# Altium footprint library JLC_25.PcbLib: 87 footprints (part 3 of 6)
Each footprint in its own frame and in the unit in brackets; x right, y up, seen from the top. Pads: shape width x height; smd on the part's side, far side on the other; paste and mask are expansions set on the pad; w line width, h text height; cw(c..) or ccw(c..) is an arc to the next point about the centre after c.
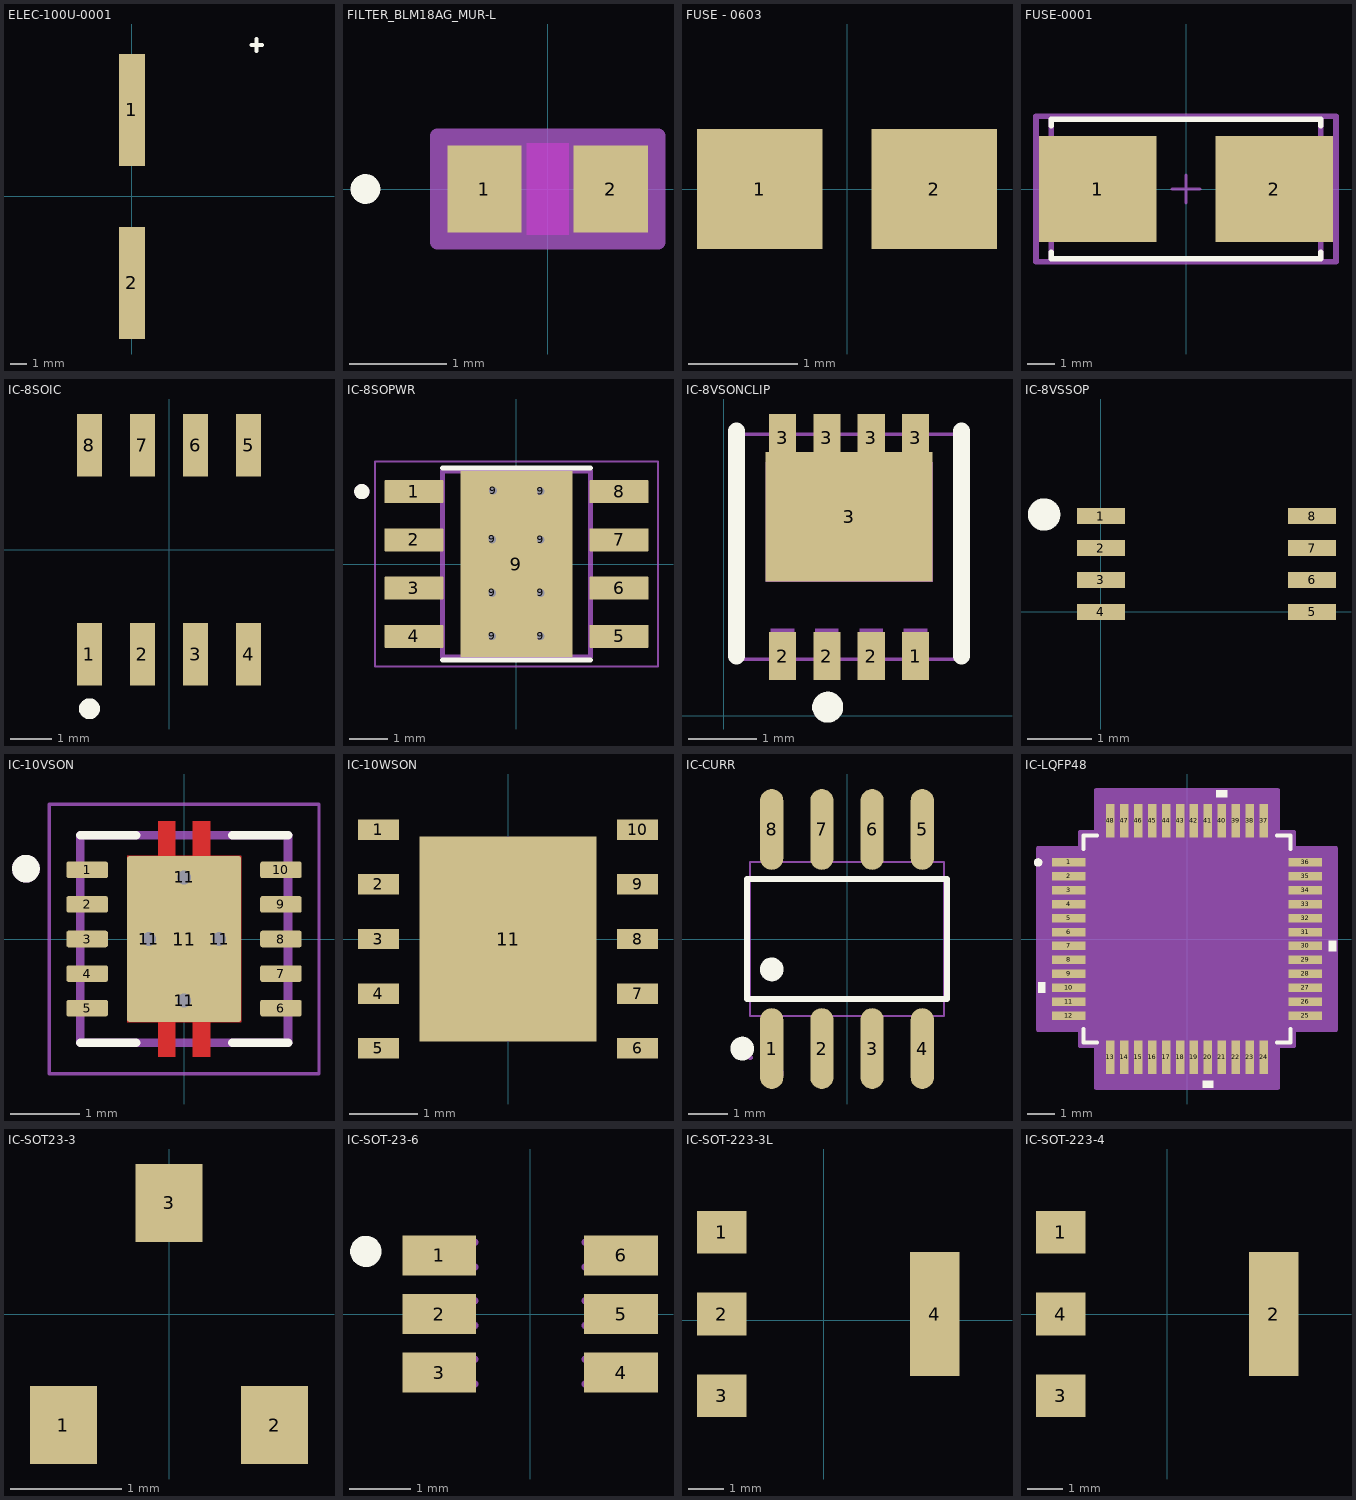
[diagram p2: the footprints below, top view; thin cyan lines are the x and y axes]

## ELEC-100U-0001 [mm]
pads (2):
  rect 1.6x7 smd: 1(0,5.4) 2(0,-5.4)
Top Overlay:
  lines w0.25: 7.775,9.075 7.775,9.825
  lines w0.254: 7.45,9.45 7.775,9.45 8.125,9.45
3D body "CAP_S-V_12P5X16_RUB.step": height 16.56, standoff 0, extent -6.604,-7.15 6.604,7.15

## FILTER_BLM18AG_MUR-L [mil]
pads (2):
  rect 30x35 smd paste+0 mask+0: 1(-25.5,0) 2(25.5,0)
Top Layer keep-out:
  region: -8.5,-16.5 -8.5,16.5 8.5,16.5 8.5,-16.5
Top Overlay:
  circle w6: c-73.5,0 r3
Keep-Out Layer:
  region: -8.5,-18.5 -8.5,18.5 8.5,18.5 8.5,-18.5
Mechanical 13:
  circle w0: c-20.5,0 r3
  lines w1: -34.5,-18.5 -34.5,18.5 ; -34.5,-18.5 34.5,-18.5 ; -34.5,-18.5 -10.5,-18.5 -10.5,18.5 -34.5,18.5 ; -34.5,-18.5 -34.5,18.5 ; -34.5,18.5 34.5,18.5 ; 34.5,-18.5 34.5,18.5 ; 34.5,-18.5 34.5,18.5 ; 34.5,-18.5 10.5,-18.5 10.5,18.5 34.5,18.5
Mechanical 15:
  region: 44.5,-21.5 -44.5,-21.5 -44.5,21.5 44.5,21.5
  lines w6: -44.5,-21.5 44.5,-21.5 44.5,21.5 -44.5,21.5 -44.5,-21.5
3D body "FILTER_BLM18AG_MUR.step": height 37.01, standoff 0, extent -34.49,-18.5 34.49,18.5

## FUSE - 0603 [mm]
pads (2):
  rect 1.15x1.1 smd: 1(-0.8,0) 2(0.8,0)
3D body "2176051-4.STEP": height 0.43, standoff -0.03, extent -0.8,-0.4 0.8,0.4

## FUSE-0001 [mil]
pads (2):
  rect 167x150 smd paste+0 mask+0: 1(-125.5,0) 2(125.5,0)
Top Overlay:
  lines w7.87: -191.54,-89.76 -191.54,-99.02 191.54,-99.02 191.54,-89.76 ; -191.54,89.76 -191.54,99.02 191.54,99.02 191.54,89.76
Top 3D Body:
  lines w7.87: -191.54,-99.02 191.54,-99.02 191.54,99.02 -191.54,99.02 -191.54,-99.02
Top Courtyard:
  lines w7.87: -212.94,-102.95 212.94,-102.95 212.94,102.95 -212.94,102.95 -212.94,-102.95
Top Assembly:
  lines w7.87: -212.94,-102.95 212.94,-102.95 212.94,102.95 -212.94,102.95 -212.94,-102.95
Top Component Center:
  lines w3.94: -19.68,0 19.68,0 ; 0,-19.68 0,19.68
3D body "Fuse_Littelfuse_Inc_01550900M_eec.STEP": height 10, standoff 0, extent -212.94,-102.95 212.94,102.95

## IC-8SOIC [mm]
pads (8):
  rect 0.6x1.5 smd: 1(-1.905,-2.5) 2(-0.635,-2.5) 3(0.635,-2.5) 4(1.905,-2.5) 5(1.905,2.5) 6(0.635,2.5) 7(-0.635,2.5) 8(-1.905,2.5)
Top Overlay:
  circle w0.25: c-1.905,-3.81 r0.125
3D body "SOIC-8_3.9x4.9mm_P1.27mm.step": height 1.75, standoff 0, extent -2.45,-3 2.45,3

## IC-8SOPWR [mm]
pads (17):
  rrect5% 1.55x0.6 smd mask+0: 1(-2.7,1.905) 2(-2.7,0.635) 3(-2.7,-0.635) 4(-2.7,-1.905) 5(2.7,-1.905) 6(2.7,-0.635) 7(2.7,0.635) 8(2.7,1.905)
  round 0.368 hole 0.2: 9(-0.635,-1.905) 9(-0.635,-0.762) 9(-0.634,0.645) 9(-0.617,1.923) 9(0.635,-1.905) 9(0.635,-0.762) 9(0.635,0.635) 9(0.64,1.914)
  rect 2.95x4.9 smd paste-3 mask+0: 9(0,0)
Top Overlay:
  circle w0.2: c-4.07,1.905 r0.1
  lines w0.127: -1.95,-2.525 1.95,-2.525 ; -1.95,2.525 1.95,2.525
Top Paste:
  region: 1.355,-1.7 -1.355,-1.7 -1.355,1.7 1.355,1.7
Top Solder:
  drawing of 9 lines, arcs and shapes, not listed
Mechanical 13:
  circle w0.2: c-4.07,1.905 r0.1
  lines w0.127: -1.95,-2.45 -1.95,2.45 1.95,2.45 1.95,-2.45 -1.95,-2.45
Mechanical 15:
  lines w0.05: -3.725,-2.7 -3.725,2.7 3.725,2.7 3.725,-2.7 -3.725,-2.7
3D body "step_temp.STEP": height 1.7, standoff 0, extent -3,-2.45 3,2.45

## IC-8VSONCLIP [mm]
pads (9):
  rect 0.4x0.7 smd paste-100 mask+0.05: 1(2.812,0.877) 2(0.862,0.877) 2(1.512,0.877) 2(2.162,0.877) 3(0.862,4.077) 3(1.512,4.077) 3(2.162,4.077) 3(2.812,4.077)
  rect 2.45x1.9 smd paste-100 mask+0.05: 3(1.837,2.917)
Top Overlay:
  circle w0.254: c1.524,0.127 r0.1
  lines w0.254: 0.187,0.877 0.187,4.177 ; 3.487,0.877 3.487,4.177
Top Paste:
  region: 3.057,1.967 3.057,3.867 3.017,3.867 3.017,4.427 2.617,4.427 2.607,4.427 2.607,3.867 2.357,3.867 2.357,4.427 1.967,4.427 1.967,3.867 1.707,3.867 1.707,4.427 1.317,4.427 1.317,3.867 1.057,3.867 1.057,4.427 0.667,4.427 0.667,3.867 0.607,3.867 0.607,1.957
  region: 0.662,1.227 1.062,1.227 1.062,0.527 0.662,0.527
  region: 1.312,1.227 1.712,1.227 1.712,0.527 1.312,0.527
  region: 1.962,1.227 2.362,1.227 2.362,0.527 1.962,0.527
  region: 2.612,1.227 3.012,1.227 3.012,0.527 2.612,0.527
Mechanical 15:
  region: 2.662,4.127 2.962,4.127 2.962,3.677 2.662,3.677
  region: 2.012,4.127 2.312,4.127 2.312,3.677 2.012,3.677
  region: 1.362,4.127 1.662,4.127 1.662,3.677 1.362,3.677
  region: 0.712,4.127 1.012,4.127 1.012,3.677 0.712,3.677
  region: 0.612,3.718 3.062,3.718 3.062,1.968 0.612,1.968
  region: 2.642,1.277 2.982,1.277 2.982,0.827 2.642,0.827
  region: 1.992,1.277 2.332,1.277 2.332,0.827 1.992,0.827
  region: 1.342,1.277 1.682,1.277 1.682,0.827 1.342,0.827
  region: 0.692,1.277 1.032,1.277 1.032,0.827 0.692,0.827
  region: 0.247,0.827 0.247,0.852 0.212,0.887 0.162,0.887 0.127,0.852 0.127,0.827 0.127,0.802 0.162,0.767 0.212,0.767 0.247,0.802
  lines w0.051: 0.187,0.827 3.487,0.827 3.487,4.127 0.187,4.127 0.187,0.827
3D body "CSD17575Q3.step": height 1.1, standoff 0, extent 0.179,0.891 3.479,4.191

## IC-8VSSOP [mm]
pads (8):
  rect 0.75x0.25 smd: 1(0,1.5) 2(0,1) 3(0,0.5) 4(0,0) 5(3.3,0) 6(3.3,0.5) 7(3.3,1) 8(3.3,1.5)
Top Overlay:
  circle w0.254: c-0.889,1.524 r0.127
3D body "SN74LVC2G157DCUR.STEP": height 0.9, standoff 0, extent 0.101,-0.238 3.201,1.762

## IC-10VSON [mm]
pads (15):
  rrect25% 0.6x0.24 smd mask+0: 1(-1.4,1) 2(-1.4,0.5) 3(-1.4,0) 4(-1.4,-0.5) 5(-1.4,-1) 6(1.4,-1) 7(1.4,-0.5) 8(1.4,0) 9(1.4,0.5) 10(1.4,1)
  round 0.368 hole 0.2 mask+0: 11(-0.508,0) 11(0,-0.889) 11(0,0.889) 11(0.508,0)
  rrect5% 1.65x2.4 smd paste-2 mask+0: 11(0,0)
Top Layer:
  region: 0.375,1.2 0.825,1.2 0.825,-1.2 0.375,-1.2 0.375,-1.7 0.125,-1.7 0.125,-1.2 -0.125,-1.2 -0.125,-1.7 -0.375,-1.7 -0.375,-1.2 -0.825,-1.2 -0.825,1.2 -0.375,1.2 -0.375,1.7 -0.125,1.7 -0.125,1.2 0.125,1.2 0.125,1.7 0.375,1.7
Top Overlay:
  circle w0.2: c-2.286,1.016 r0.1
  lines w0.127: -1.5,-1.5 -0.695,-1.5 ; -1.5,1.5 -0.695,1.5 ; 0.695,-1.5 1.5,-1.5 ; 0.695,1.5 1.5,1.5
Top Paste:
  region: -0.125,-1.7 -0.375,-1.7 -0.375,-1.36 -0.125,-1.36
  region: 0.375,-1.7 0.125,-1.7 0.125,-1.36 0.375,-1.36
  region: -0.125,1.36 -0.375,1.36 -0.375,1.7 -0.125,1.7
  region: 0.375,1.36 0.125,1.36 0.125,1.7 0.375,1.7
  region: 0.75,-1.16 -0.75,-1.16 -0.75,-0.1 0.75,-0.1
  region: 0.75,0.1 -0.75,0.1 -0.75,1.16 0.75,1.16
Top Solder:
  region: -1.03,0.81 -1.77,0.81 -1.77,1.19 -1.03,1.19
  region: -1.03,0.31 -1.77,0.31 -1.77,0.69 -1.03,0.69
  region: -1.03,-0.19 -1.77,-0.19 -1.77,0.19 -1.03,0.19
  region: -1.03,-0.69 -1.77,-0.69 -1.77,-0.31 -1.03,-0.31
  region: -1.03,-1.19 -1.77,-1.19 -1.77,-0.81 -1.03,-0.81
  region: 1.77,-1.19 1.03,-1.19 1.03,-0.81 1.77,-0.81
  region: 1.77,-0.69 1.03,-0.69 1.03,-0.31 1.77,-0.31
  region: 1.77,-0.19 1.03,-0.19 1.03,0.19 1.77,0.19
  region: 1.77,0.31 1.03,0.31 1.03,0.69 1.77,0.69
  region: 1.77,0.81 1.03,0.81 1.03,1.19 1.77,1.19
  region: 0.445,1.27 0.895,1.27 0.895,-1.27 0.445,-1.27 0.445,-1.77 0.055,-1.77 0.055,-1.27 -0.055,-1.27 -0.055,-1.77 -0.445,-1.77 -0.445,-1.27 -0.895,-1.27 -0.895,1.27 -0.445,1.27 -0.445,1.77 -0.055,1.77 -0.055,1.27 0.055,1.27 0.055,1.77 0.445,1.77
Mechanical 13:
  circle w0.2: c-2.286,1.016 r0.1
  lines w0.127: -1.5,-1.5 1.5,-1.5 1.5,1.5 -1.5,1.5 -1.5,-1.5
Mechanical 15:
  lines w0.05: -1.95,-1.95 1.95,-1.95 1.95,1.95 -1.95,1.95 -1.95,-1.95
3D body "UCC27282DRCR.step": height 1, standoff 0, extent -1.476,-1.476 1.524,1.524

## IC-10WSON [mm]
pads (11):
  rect 0.6x0.3 smd: 1(-1.9,1.6) 2(-1.9,0.8) 3(-1.9,0) 4(-1.9,-0.8) 5(-1.9,-1.6) 6(1.9,-1.6) 7(1.9,-0.8) 8(1.9,0) 9(1.9,0.8) 10(1.9,1.6)
  rect 2.6x3 smd: 11(0,0)
3D body "LMR14050SQDPRRQ1--3DModel-STEP-56544.STEP": height 0.8, standoff 0, extent -2,-2 2,2

## IC-CURR [mm]
pads (8):
  oval 0.588x2.045 smd paste+0 mask+0.051: 1(-1.905,-2.772) 2(-0.635,-2.772) 3(0.635,-2.772) 4(1.905,-2.772) 5(1.905,2.772) 6(0.635,2.772) 7(-0.635,2.772) 8(-1.905,2.772)
Top Overlay:
  circle w0.3: c-2.652,-2.772 r0.15
  circle w0.3: c-1.905,-0.769 r0.15
  lines w0.152: -2.526,-1.521 2.526,-1.521 2.526,1.521 -2.526,1.521 -2.526,-1.521
Mechanical 6:
  circle w0.3: c-1.905,-3.4 r0.15
Mechanical 15:
  region: 1.695,2.175 1.695,1.94 2.115,1.94 2.115,2.175
  region: 1.695,3 1.695,2.165 2.115,2.165 2.115,3
  region: 0.425,2.175 0.425,1.94 0.845,1.94 0.845,2.175
  region: 0.425,3 0.425,2.165 0.845,2.165 0.845,3
  region: -0.845,2.175 -0.845,1.94 -0.425,1.94 -0.425,2.175
  region: -0.845,3 -0.845,2.165 -0.425,2.165 -0.425,3
  region: -2.115,2.175 -2.115,1.94 -1.695,1.94 -1.695,2.175
  region: -2.115,3 -2.115,2.165 -1.695,2.165 -1.695,3
  region: 1.695,-2.175 1.695,-1.94 2.115,-1.94 2.115,-2.175
  region: 1.695,-3 1.695,-2.165 2.115,-2.165 2.115,-3
  region: 0.425,-2.175 0.425,-1.94 0.845,-1.94 0.845,-2.175
  region: 0.425,-3 0.425,-2.165 0.845,-2.165 0.845,-3
  region: -0.845,-2.175 -0.845,-1.94 -0.425,-1.94 -0.425,-2.175
  region: -0.845,-3 -0.845,-2.165 -0.425,-2.165 -0.425,-3
  region: -2.115,-2.175 -2.115,-1.94 -1.695,-1.94 -1.695,-2.175
  region: -2.115,-3 -2.115,-2.165 -1.695,-2.165 -1.695,-3
  region: -2.39,-3 -2.391,-2.976 -2.426,-2.941 -2.474,-2.941 -2.51,-2.975 -2.51,-3 -2.51,-3.024 -2.475,-3.059 -2.426,-3.059 -2.391,-3.024
  lines w0.051: -2.45,-1.95 2.45,-1.95 2.45,1.95 -2.45,1.95 -2.45,-1.95

## IC-LQFP48 [mm]
pads (48):
  rect 1.194x0.305 smd paste+0 mask+0: 1(-4.25,2.75) 2(-4.25,2.25) 3(-4.25,1.75) 4(-4.25,1.25) 5(-4.25,0.75) 6(-4.25,0.25) 7(-4.25,-0.25) 8(-4.25,-0.75) 9(-4.25,-1.25) 10(-4.25,-1.75) 11(-4.25,-2.25) 12(-4.25,-2.75) 25(4.25,-2.75) 26(4.25,-2.25) 27(4.25,-1.75) 28(4.25,-1.25) 29(4.25,-0.75) 30(4.25,-0.25) 31(4.25,0.25) 32(4.25,0.75) 33(4.25,1.25) 34(4.25,1.75) 35(4.25,2.25) 36(4.25,2.75)
  rect 0.305x1.194 smd paste+0 mask+0: 13(-2.75,-4.25) 14(-2.25,-4.25) 15(-1.75,-4.25) 16(-1.25,-4.25) 17(-0.75,-4.25) 18(-0.25,-4.25) 19(0.25,-4.25) 20(0.75,-4.25) 21(1.25,-4.25) 22(1.75,-4.25) 23(2.25,-4.25) 24(2.75,-4.25) 37(2.75,4.25) 38(2.25,4.25) 39(1.75,4.25) 40(1.25,4.25) 41(0.75,4.25) 42(0.25,4.25) 43(-0.25,4.25) 44(-0.75,4.25) 45(-1.25,4.25) 46(-1.75,4.25) 47(-2.25,4.25) 48(-2.75,4.25)
Top Overlay:
  circle w0.152: c-5.351,2.75 r0.076
  region: -5.101,-1.559 -5.355,-1.559 -5.355,-1.94 -5.101,-1.94
  region: 0.941,-5.101 0.56,-5.101 0.56,-5.355 0.941,-5.355
  region: 5.101,-0.059 5.355,-0.059 5.355,-0.44 5.101,-0.44
  region: 1.441,5.101 1.06,5.101 1.06,5.355 1.441,5.355
  lines w0.152: -3.721,-3.235 -3.721,-3.721 -3.235,-3.721 ; -3.721,3.235 -3.721,3.721 -3.235,3.721 ; 3.235,-3.721 3.721,-3.721 3.721,-3.235 ; 3.235,3.721 3.721,3.721 3.721,3.235
Mechanical 13:
  circle w0: c-3.018,2.75 r0.076
  lines w0.025: -3.594,2.324 -2.324,3.594 ; -3.594,-3.594 3.594,-3.594 3.594,3.594 -3.594,3.594 -3.594,-3.594
Mechanical 15:
  region: -3.258,-3.848 -3.848,-3.848 -3.848,-3.258 -5.355,-3.258 -5.355,3.258 -3.848,3.258 -3.848,3.848 -3.258,3.848 -3.258,5.355 3.258,5.355 3.258,3.848 3.848,3.848 3.848,3.258 5.355,3.258 5.355,-3.258 3.848,-3.258 3.848,-3.848 3.258,-3.848 3.258,-5.355 -3.258,-5.355
  lines w0.152: -5.355,-3.258 -3.848,-3.258 -3.848,-3.848 -3.258,-3.848 -3.258,-5.355 3.258,-5.355 3.258,-3.848 3.848,-3.848 3.848,-3.258 5.355,-3.258 5.355,3.258 3.848,3.258 3.848,3.848 3.258,3.848 3.258,5.355 -3.258,5.355 -3.258,3.848 -3.848,3.848 -3.848,3.258 -5.355,3.258 -5.355,-3.258
3D body "LQFP48-7x7mm.step": height 1.6, standoff 0, extent -4.497,-4.497 4.497,4.497

## IC-SOT23-3 [mm]
pads (3):
  rect 0.6x0.7 smd: 1(-0.95,-1) 2(0.95,-1) 3(0,1)
3D body "LM4040C20IDBZTG4.STEP": height 1.12, standoff 0, extent -1.46,-1.185 1.46,1.185

## IC-SOT-23-6 [mm]
pads (6):
  rect 1.2x0.65 smd paste+0 mask+0.051: 1(-1.475,0.95) 2(-1.475,0) 3(-1.475,-0.95) 4(1.475,-0.95) 5(1.475,0) 6(1.475,0.95)
Top Overlay:
  circle w0.254: c-2.667,1.016 r0.127
Mechanical 13:
  lines w0.127: -0.903,-1.135 -1.128,-1.135 -1.159,-1.135 -1.251,-1.135 -1.437,-1.135 -1.437,-0.735 -1.251,-0.735 -1.159,-0.735 -1.128,-0.735 -0.903,-0.735 ; -0.903,-0.185 -1.128,-0.185 -1.159,-0.185 -1.251,-0.185 -1.437,-0.185 -1.437,0.215 -1.251,0.215 -1.159,0.215 -1.128,0.215 -0.903,0.215 ; -0.903,0.765 -1.128,0.765 -1.159,0.765 -1.251,0.765 -1.437,0.765 -1.437,1.165 -1.251,1.165 -1.159,1.165 -1.128,1.165 -0.903,1.165 ; 0.896,-1.135 1.122,-1.135 1.152,-1.135 1.245,-1.135 1.431,-1.135 1.431,-0.735 1.245,-0.735 1.152,-0.735 1.122,-0.735 0.896,-0.735 ; 0.896,-0.185 1.122,-0.185 1.152,-0.185 1.245,-0.185 1.431,-0.185 1.431,0.215 1.245,0.215 1.152,0.215 1.122,0.215 0.896,0.215 ; 0.896,0.765 1.122,0.765 1.152,0.765 1.245,0.765 1.431,0.765 1.431,1.165 1.245,1.165 1.152,1.165 1.122,1.165 0.896,1.165
3D body "DDC0006A.stp": height 0.97, standoff 0, extent -1.4,-1.45 1.4,1.45

## IC-SOT-223-3L [mm]
pads (4):
  rect 1.4x1.2 smd mask+0.07: 1(-2.875,2.475) 2(-2.875,0.175) 3(-2.875,-2.125)
  rect 1.4x3.5 smd: 4(3.125,0.175)
3D body "DCY0004A.stp": height 1.68, standoff 0, extent -3.375,-3.075 3.625,3.425

## IC-SOT-223-4 [mm]
pads (4):
  rect 1.4x1.2 smd mask+0.07: 1(-3,2.3) 3(-3,-2.3) 4(-3,0)
  rect 1.4x3.5 smd: 2(3,0)
3D body "DCY0004A.stp": height 1.68, standoff 0, extent -3.5,-3.25 3.5,3.25